# Altium schematic symbol library W971GG6JB.SchLib: 1 symbol
Pins are listed as number, name and electrical type; pins without a type are passive.

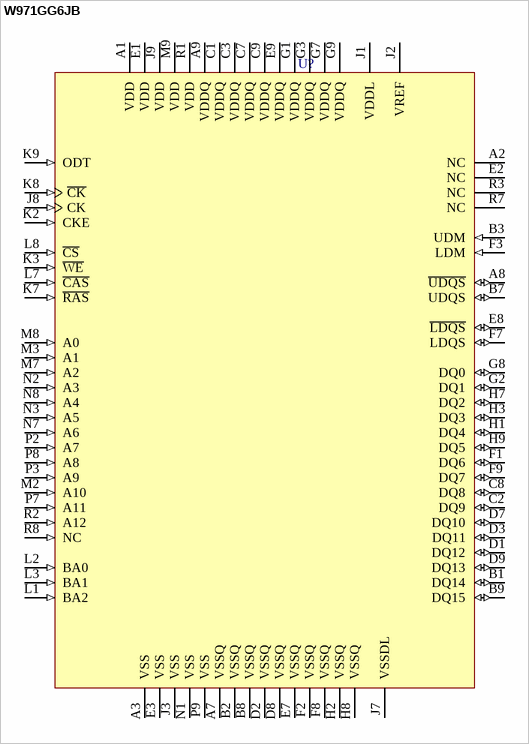
[diagram p0: symbol W971GG6JB]

## W971GG6JB
designator U?
signal-integrity model Model Name (Model Description)
pins: A1 VDD (power) "Power Supply", A2 NC "No Connect", A3 VSS (power) "Ground", A7 VSSQ (power) "DQ Ground", A8 ~{UDQS} (io) "Data strobe for upper byte", A9 VDDQ (power) "DQ Power", B1 DQ14 (io) "Data Input/Output 14", B2 VSSQ (power) "DQ Ground", B3 UDM (in) "Data Mask for upper byte", B7 UDQS (io) "Data strobe for upper byte", B8 VSSQ (power) "DQ Ground", B9 DQ15 (io) "Data Input/Output 15", C1 VDDQ (power) "DQ Power", C2 DQ9 (io) "Data Input/Output 9", C3 VDDQ (power) "DQ Power", C7 VDDQ (power) "DQ Power", C8 DQ8 (io) "Data Input/Output 8", C9 VDDQ (power) "DQ Power", D1 DQ12 (io) "Data Input/Output 12", D2 VSSQ (power) "DQ Ground", D3 DQ11 (io) "Data Input/Output 11", D7 DQ10 (io) "Data Input/Output 10", D8 VSSQ (power) "DQ Ground", D9 DQ13 (io) "Data Input/Output 13", E1 VDD (power) "Power Supply", E2 NC "No Connect", E3 VSS (power) "Ground", E7 VSSQ (power) "DQ Ground", E8 ~{LDQS} (io) "Data strobe for lower byte", E9 VDDQ (power) "DQ Power", F1 DQ6 (io) "Data Input/Output 6", F2 VSSQ (power) "DQ Ground", F3 LDM (in) "Data Mask for lower byte", F7 LDQS (io) "Data strobe for lower byte", F8 VSSQ (power) "DQ Ground", F9 DQ7 (io) "Data Input/Output 7", G1 VDDQ (power) "DQ Power", G2 DQ1 (io) "Data Input/Output 1", G3 VDDQ (power) "DQ Power", G7 VDDQ (power) "DQ Power", G8 DQ0 (io) "Data Input/Output 0", G9 VDDQ (power) "DQ Power", H1 DQ4 (io) "Data Input/Output 4", H2 VSSQ (power) "DQ Ground", H3 DQ3 (io) "Data Input/Output 3", H7 DQ2 (io) "Data Input/Output 2", H8 VSSQ (power) "DQ Ground", H9 DQ5 (io) "Data Input/Output 5", J1 VDDL (power) "DLL Power Supply", J2 VREF (power) "SSTL_18 Reference voltage", J3 VSS (power) "Ground", J7 VSSDL (power) "DLL Ground", J8 CK (in) "Clock", J9 VDD (power) "Power Supply", K2 CKE (in) "Clock Enable", K3 ~{WE} (in) "Command Input", K7 ~{RAS} (in) "Command Input", K8 ~{CK} (in) "Clock", K9 ODT (in) "On-die-termination enable", L1 BA2 (in) "Bank Address Input 2", L2 BA0 (in) "Bank Address Input 0", L3 BA1 (in) "Bank Address Input 1", L7 ~{CAS} (in) "Command Input", L8 ~{CS} (in) "Chip Select", M2 A10 (in) "Address Input 10", M3 A1 (in) "Address Input 1", M7 A2 (in) "Address Input 2", M8 A0 (in) "Address Input 0", M9 VDD (power) "Power Supply", N1 VSS (power) "Ground", N2 A3 (in) "Address Input 3", N3 A5 (in) "Address Input 5", N7 A6 (in) "Address Input 6", N8 A4 (in) "Address Input 4", P2 A7 (in) "Address Input 7", P3 A9 (in) "Address Input 9", P7 A11 (in) "Address Input 11", P8 A8 (in) "Address Input 8", P9 VSS (power) "Ground", R1 VDD (power) "Power Supply", R2 A12 (in) "Address Input 12", R3 NC "No Connect (reserved for future use)", R7 NC "No Connect (reserved for future use)", R8 NC (in) "Address Input 13"